# Altium footprint library PCB1.PcbLib: 57 footprints (part 1 of 4)
Each footprint in its own frame and in the unit in brackets; x right, y up, seen from the top. Pads: shape width x height; smd on the part's side, far side on the other; paste and mask are expansions set on the pad; w line width, h text height; cw(c..) or ccw(c..) is an arc to the next point about the centre after c.
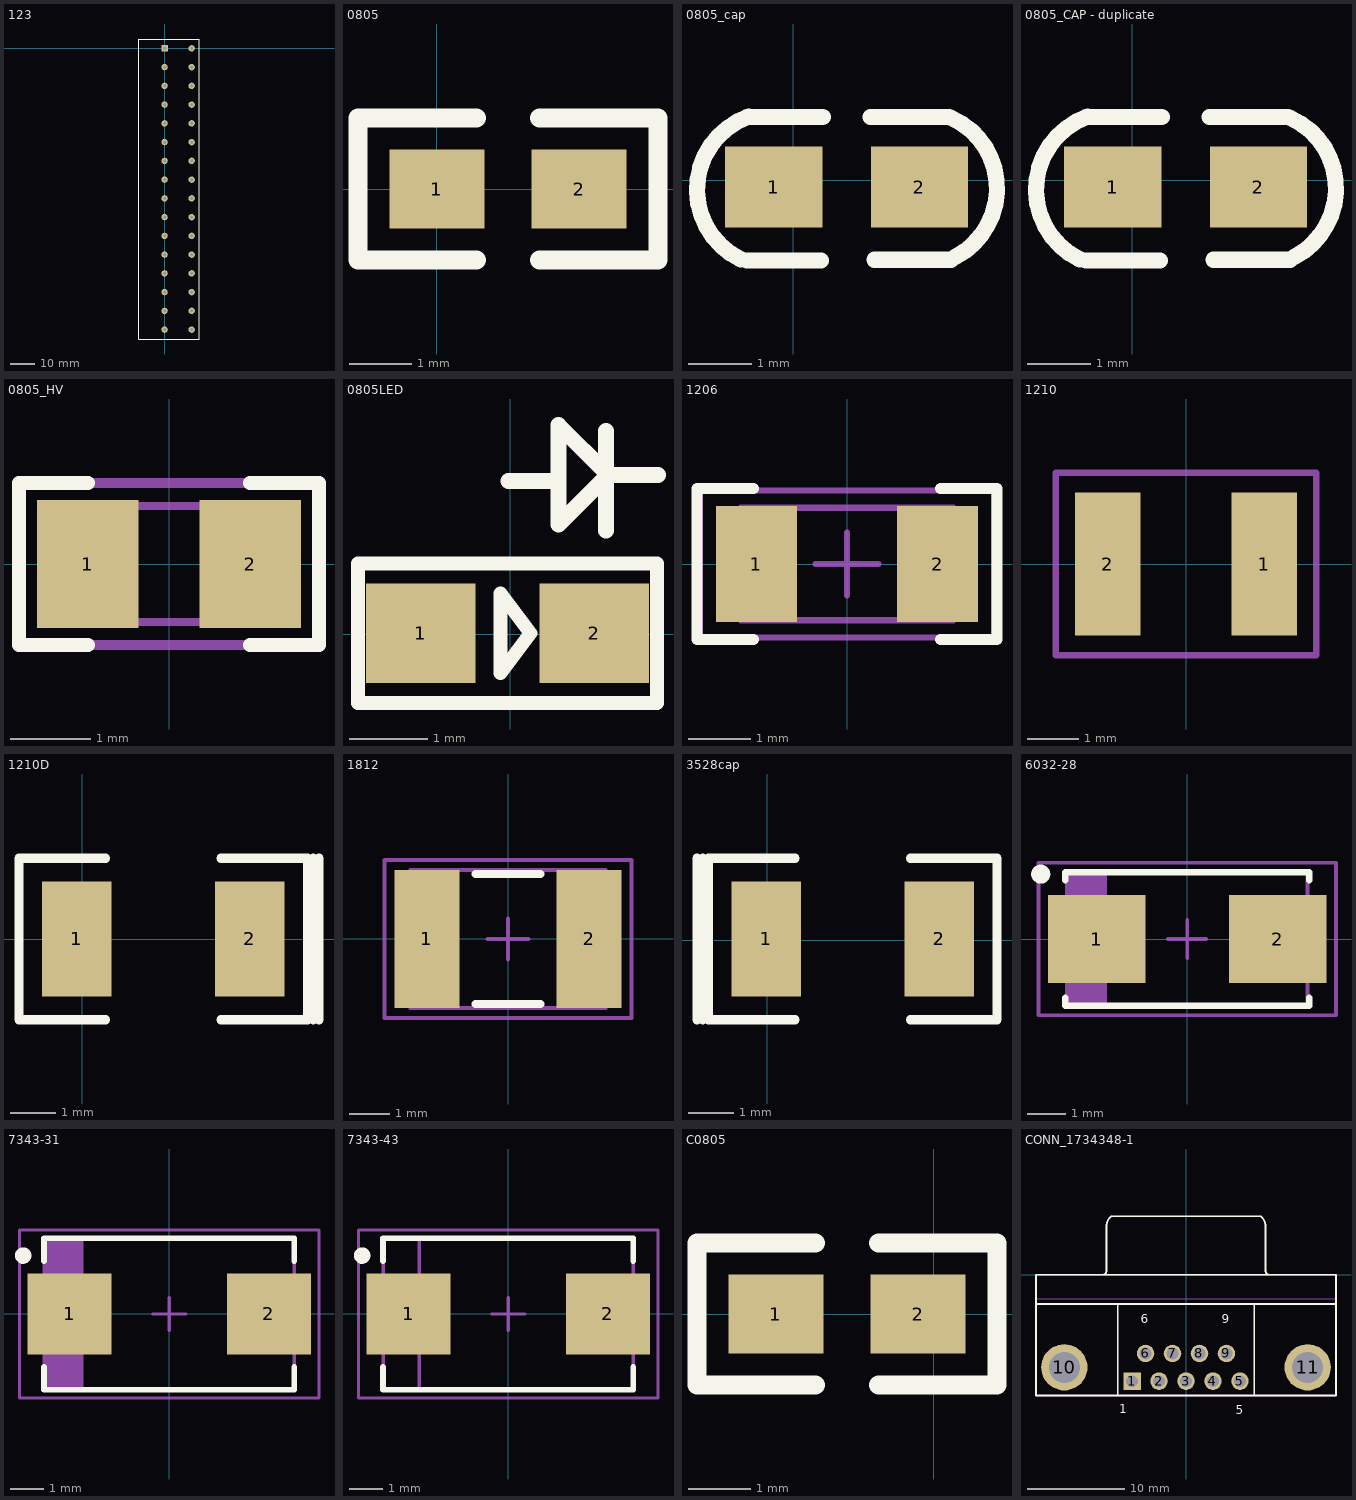
[diagram p0: the footprints below, top view; thin cyan lines are the x and y axes]

## 123 [mm]
pads (32):
  rect 2.6x2.6 hole 1.4: 1(0,0)
  round 2.6 hole 1.4: 2(11,0) 3(0,-7.62) 4(11,-7.62) 5(0,-15.24) 6(11,-15.24) 7(0,-22.86) 8(11,-22.86) 9(0,-30.48) 10(11,-30.48) 11(0,-38.1) 12(11,-38.1) 13(0,-45.72) 14(11,-45.72) 15(0,-53.34) 16(11,-53.34) 17(0,-60.96) 18(11,-60.96) 19(0,-68.58) 20(11,-68.58) 21(0,-76.2) 22(11,-76.2) 23(0,-83.82) 24(11,-83.82) 25(0,-91.44) 26(11,-91.44) 27(0,-99.06) 28(11,-99.06) 29(0,-106.68) 30(11,-106.68) 31(0,-114.3) 32(11,-114.3)
Top Overlay:
  lines w0.254: -10.4,-118.11 14,-118.11 14,3.81 -10.4,3.81 -10.4,-118.11

## 0805 [mil]
height 250
pads (2):
  rect 60x50 smd: 1(0,0) 2(90,0)
Top Overlay:
  lines w12: 25,-45 -50,-45 -50,45 25,45 ; 65,-45 140,-45 140,45 65,45

## 0805_cap [mm]
pads (2):
  rect 1.524x1.27 smd: 1(-0.31,-0.11) 2(1.976,-0.11)
Top Overlay:
  lines w0.254: -0.826,-1.243 cw(c-0.3,-0.15) -0.701,0.994 ; -0.73,-1.26 0.43,-1.26 ; -0.73,0.99 0.46,0.99 ; 1.21,0.99 2.44,0.99 ; 1.27,-1.25 2.47,-1.25 ; 2.48,0.974 cw(c1.98,-0.13) 2.535,-1.207

## 0805_CAP - duplicate [mm]
pads (2):
  rect 1.524x1.27 smd: 1(-0.31,-0.11) 2(1.976,-0.11)
Top Overlay:
  lines w0.254: -0.826,-1.243 cw(c-0.3,-0.15) -0.701,0.994 ; -0.73,-1.26 0.43,-1.26 ; -0.73,0.99 0.46,0.99 ; 1.21,0.99 2.44,0.99 ; 1.27,-1.25 2.47,-1.25 ; 2.48,0.974 cw(c1.98,-0.13) 2.535,-1.207

## 0805_HV [mil] "0805 with 30mil clearance between pads"
height 43.31
pads (2):
  rect 50x63 smd: 1(-40,0) 2(40,0)
Top Overlay:
  lines w7: -40,-40 -74,-40 -74,0 -74,40 -40,40 ; 40,-40 74,-40 74,0 74,40 40,40
Mechanical 5:
  lines w5: -74,-40 -74,40 74,40 74,-40 -74,-40
Mechanical 13:
  lines w3.94: -25.59,-28.54 -25.59,28.54 ; 25.59,-28.54 25.59,28.54 ; -43.31,-28.54 43.31,-28.54 43.31,28.54 -43.31,28.54 -43.31,-28.54
3D body: height 43.31, standoff 0, extent -43.29,-28.52 -25.61,28.52
3D body: height 43.31, standoff 0, extent -25.57,-28.52 25.57,28.52
3D body: height 43.31, standoff 0, extent 25.61,-28.52 43.29,28.52

## 0805LED [mm]
pads (2):
  rect 1.4x1.27 smd: 1(-1.143,0.013) 2(1.067,0.013)
Top Overlay:
  lines w0.178: 1.868,0.902 1.867,0.902 ; 1.867,0.902 -1.943,0.902 -1.943,0.013 -1.943,-0.876 1.867,-0.876 1.867,0.902 ; -0.127,-0.495 0.254,0.013 -0.127,0.521 -0.127,-0.495
  lines w0.203: -0.025,1.956 0.61,1.956 ; 1.219,1.321 1.219,2.591 ; 1.88,2.032 1.245,2.032 ; 1.245,2.032 0.61,2.667 0.61,1.397 1.245,2.032

## 1206 [mm] "1206 from SM-752 data"
height 1.35
pads (2):
  rect 1.3x1.85 smd: 1(-1.45,0) 2(1.45,0)
Top Overlay:
  lines w0.178: -1.5,-1.21 -2.4,-1.21 -2.4,1.21 -1.5,1.21 ; 1.5,-1.21 2.4,-1.21 2.4,1.21 1.5,1.21
Mechanical 5:
  lines w0.1: -1.7,-0.9 1.7,-0.9 1.7,0.9 -1.7,0.9 -1.7,-0.9
Mechanical 13:
  lines w0.1: -1.2,-0.9 -1.2,0.9 ; 1.2,-0.9 1.2,0.9 ; -1.7,-0.9 1.7,-0.9 1.7,0.9 -1.7,0.9 -1.7,-0.9
Mechanical 15:
  lines w0.1: -0.5,0 0.5,0 ; 0,-0.5 0,0.5 ; -2.35,-1.175 2.35,-1.175 2.35,1.175 -2.35,1.175 -2.35,-1.175
3D body: height 1.35, standoff 0, extent -1.699,-0.899 -1.201,0.899
3D body: height 1.35, standoff 0, extent -1.199,-0.899 1.199,0.899
3D body: height 1.35, standoff 0, extent 1.201,-0.899 1.699,0.899

## 1210 [mil]
pads (2):
  rect 50x110 smd: 1(60,0) 2(-60,0)
Mechanical 5:
  lines w5: -100,-70 -100,70 100,70 100,-70 -100,-70

## 1210D [mil]
height 39.37
pads (2):
  rect 60x100 smd: 1(-5,0.06) 2(145,0.06)
Top Overlay:
  lines w8: 20,-69.94 -55,-69.94 -55,70.06 20,70.06 ; 120,-69.94 195,-69.94 195,70.06 120,70.06 ; 200,-69.94 200,70.06 ; 205,-69.94 205,70.06

## 1812 [mm]
height 1.35
pads (2):
  rect 1.6x3.4 smd: 1(-2,0) 2(2,0)
Top Overlay:
  lines w0.2: -0.8,-1.6 0.8,-1.6 ; -0.8,1.6 0.8,1.6
Mechanical 5:
  lines w0.1: -2.4,-1.7 2.4,-1.7 2.4,1.7 -2.4,1.7 -2.4,-1.7
Mechanical 13:
  lines w0.1: -1.9,-1.7 -1.9,1.7 ; 1.9,-1.7 1.9,1.7 ; -2.4,-1.7 -2.4,1.7 2.4,1.7 2.4,-1.7 -2.4,-1.7
Mechanical 15:
  lines w0.1: -0.5,0 0.5,0 ; 0,-0.5 0,0.5 ; -3.05,-1.95 -3.05,1.95 3.05,1.95 3.05,-1.95 -3.05,-1.95
3D body: height 1.35, standoff 0, extent -2.399,-1.699 -1.901,1.699
3D body: height 1.35, standoff 0, extent -1.899,-1.699 1.899,1.699
3D body: height 1.35, standoff 0, extent 1.901,-1.699 2.399,1.699

## 3528cap [mil]
height 270.08
pads (2):
  rect 60x100 smd: 1(-1,1) 2(149,1)
Top Overlay:
  lines w8: -61,-69 -61,71 ; -56,-69 -56,71 ; 24,-69 -51,-69 -51,71 24,71 ; 124,-69 199,-69 199,71 124,71

## 6032-28 [mm] "Medium Density IPC based on Vishay Sprague 293D datasheet."
height 2.8
pads (2):
  rect 2.55x2.3 smd: 1(-2.375,0) 2(2.375,0)
Top Overlay:
  circle w0.25: c-3.839,1.7 r0.125
  lines w0.178: -3.2,-1.539 -3.2,-1.75 3.2,-1.75 3.2,-1.539 ; -3.2,1.539 -3.2,1.75 3.2,1.75 3.2,1.539
Mechanical 5:
  rectangle: -3.15,-1.75 -2.15,1.75
  lines w0.1: -2.15,-1.75 -2.15,1.75 ; -3.15,-1.75 -3.15,1.75 3.15,1.75 3.15,-1.75 -3.15,-1.75
Mechanical 15:
  lines w0.1: -0.5,0 0.5,0 ; 0,-0.5 0,0.5 ; -3.9,-2 3.9,-2 3.9,2 -3.9,2 -3.9,-2
3D body: height 2.8, standoff 0, extent -3.15,-1.75 3.15,1.75
3D body: height 2.8, standoff 2.8, extent -3.149,-1.749 -2.151,1.749

## 7343-31 [mm] "Medium Density based on Kemet T495 dimensions"
height 3.1
pads (2):
  rect 2.55x2.45 smd: 1(-3.025,0) 2(3.025,0)
Top Overlay:
  circle w0.25: c-4.439,1.775 r0.125
  lines w0.178: -3.8,-1.614 -3.8,-2.3 3.8,-2.3 3.8,-1.614 ; -3.8,1.614 -3.8,2.3 3.8,2.3 3.8,1.614
Mechanical 5:
  rectangle: -3.8,-2.3 -2.65,2.3
  lines w0.1: -2.65,-2.3 -2.65,2.3 ; -3.8,-2.3 -3.8,2.3 3.8,2.3 3.8,-2.3 -3.8,-2.3
Mechanical 15:
  lines w0.1: -0.5,0 0.5,0 ; 0,-0.5 0,0.5 ; -4.55,-2.55 4.55,-2.55 4.55,2.55 -4.55,2.55 -4.55,-2.55
3D body: height 3.1, standoff 3.1, extent -3.799,-2.299 -2.651,2.299
3D body: height 3.1, standoff 0, extent -3.8,-2.3 3.8,2.3

## 7343-43 [mm] "Medium density IPC based on Kemet T495 series"
height 4.3
pads (2):
  rect 2.55x2.45 smd: 1(-3.025,0) 2(3.025,0)
Top Overlay:
  circle w0.25: c-4.439,1.775 r0.125
  lines w0.178: -3.8,-1.614 -3.8,-2.3 3.8,-2.3 3.8,-1.614 ; -3.8,1.614 -3.8,2.3 3.8,2.3 3.8,1.614
Mechanical 13:
  lines w0.1: -2.7,-2.3 -2.7,2.3 ; -3.8,-2.3 3.8,-2.3 3.8,2.3 -3.8,2.3 -3.8,-2.3
Mechanical 15:
  lines w0.1: -0.5,0 0.5,0 ; 0,-0.5 0,0.5 ; -4.55,-2.55 4.55,-2.55 4.55,2.55 -4.55,2.55 -4.55,-2.55
3D body: height 4.3, standoff 0, extent -3.8,-2.3 3.8,2.3
3D body: height 4.3, standoff 4.3, extent -3.799,-2.299 -2.701,2.299

## C0805 [mil]
height 39.37
pads (2):
  rect 60x50 smd: 1(-100,0) 2(-10,0)
Top Overlay:
  lines w12: -75,-45 -150,-45 -150,45 -75,45 ; -35,-45 40,-45 40,45 -35,45

## CONN_1734348-1 [mm] "Connector; D Subminiature 9 Position; Right Angle"
height 12.75
pads (11):
  rect 1.8x1.8 hole 1.2: 1(-5.54,-10.92)
  round 1.8 hole 1.2: 2(-2.77,-10.92) 3(0,-10.92) 4(2.77,-10.92) 5(5.54,-10.92) 6(-4.155,-8.08) 7(-1.385,-8.08) 8(1.385,-8.08) 9(4.155,-8.08)
  round 4.76 hole 3.18: 10(-12.495,-9.5) 11(12.495,-9.5)
Top Overlay:
  lines w0.178: -15.4,-3 15.4,-3 ; -8.565,0 ccw(c-8.565,0.4) -8.165,0.4 -8.165,5 cw(c-6.895,5) -7.678,6 -5.525,6 5.525,6 7.678,6 cw(c6.895,5) 8.165,5 8.165,0.4 ccw(c8.565,0.4) 8.565,0 ; -7,-12.4 -7,-3 ; 7,-12.4 7,-3 ; -15.4,-12.4 15.4,-12.4 15.4,0 -15.4,0 -15.4,-12.4
  text "6" at -4.655,-4.975 h0.9
  text "9" at 3.655,-4.975 h0.9
  text "5" at 5.131,-14.326 h0.9
  text "1" at -6.858,-14.224 h0.9
Mechanical 5:
  lines w0.127: -8.565,0 ccw(c-8.565,0.4) -8.165,0.4 -8.165,5 cw(c-6.895,5) -7.678,6 -5.525,6 5.525,6 7.678,6 cw(c6.895,5) 8.165,5 8.165,0.4 ccw(c8.565,0.4) 8.565,0 ; -7.006,6 -7.006,6.02 -6.881,6.02 ; -6.881,6 -6.881,6.02 ; -6.756,6 -6.756,6.02 -6.881,6.02 ; -6.02,6 -6.02,6.02 -5.987,6.02 ; -5.987,6 -5.987,6.02 ; -5.97,6 -5.97,6.02 ; -5.92,6 -5.92,6.02 ; -5.837,6 -5.837,6.02 ; -5.754,6 -5.754,6.02 ; -5.687,6 -5.687,6.02 ; -5.604,6 -5.604,6.02 ; -5.52,6 -5.52,6.02 ; -5.47,6 -5.47,6.02 ; -5.437,6 -5.437,6.02 ; -5.42,6 -5.42,6.02 -5.437,6.02 ; -15.4,-2.45 -13.6,-2.45 13.6,-2.45 15.4,-2.45 ; -15.4,-2.45 -15.4,-0.43 -15.4,0 -13.9,0 13.9,0 15.4,0 15.4,-0.43 15.4,-2.45 ; -15.4,-2.45 -15.4,-4.25 -15.4,-12.4 -14.345,-12.4 -10.645,-12.4 -8.75,-12.4 -7.25,-12.4 7.25,-12.4 8.75,-12.4 10.645,-12.4 14.345,-12.4 15.4,-12.4 15.4,-4.25 15.4,-2.45 ; -5.987,6.02 -5.97,6.02 ; -5.97,6.02 -5.92,6.02 ; -5.92,6.02 -5.837,6.02 ; -5.837,6.02 -5.754,6.02 ; -5.754,6.02 -5.687,6.02 ; -5.687,6.02 -5.604,6.02 ; -5.604,6.02 -5.52,6.02 ; -5.52,6.02 -5.47,6.02 ; -5.47,6.02 -5.437,6.02
  text ".Designator" at -4.572,-9.652 h0.9
3D body: height 12.52, standoff -4.08, extent -15.4,-12.4 15.4,6.02